# Altium schematic symbol library MasterLib.SchLib: 91 symbols
Pins are listed as number, name and electrical type; pins without a type are passive.

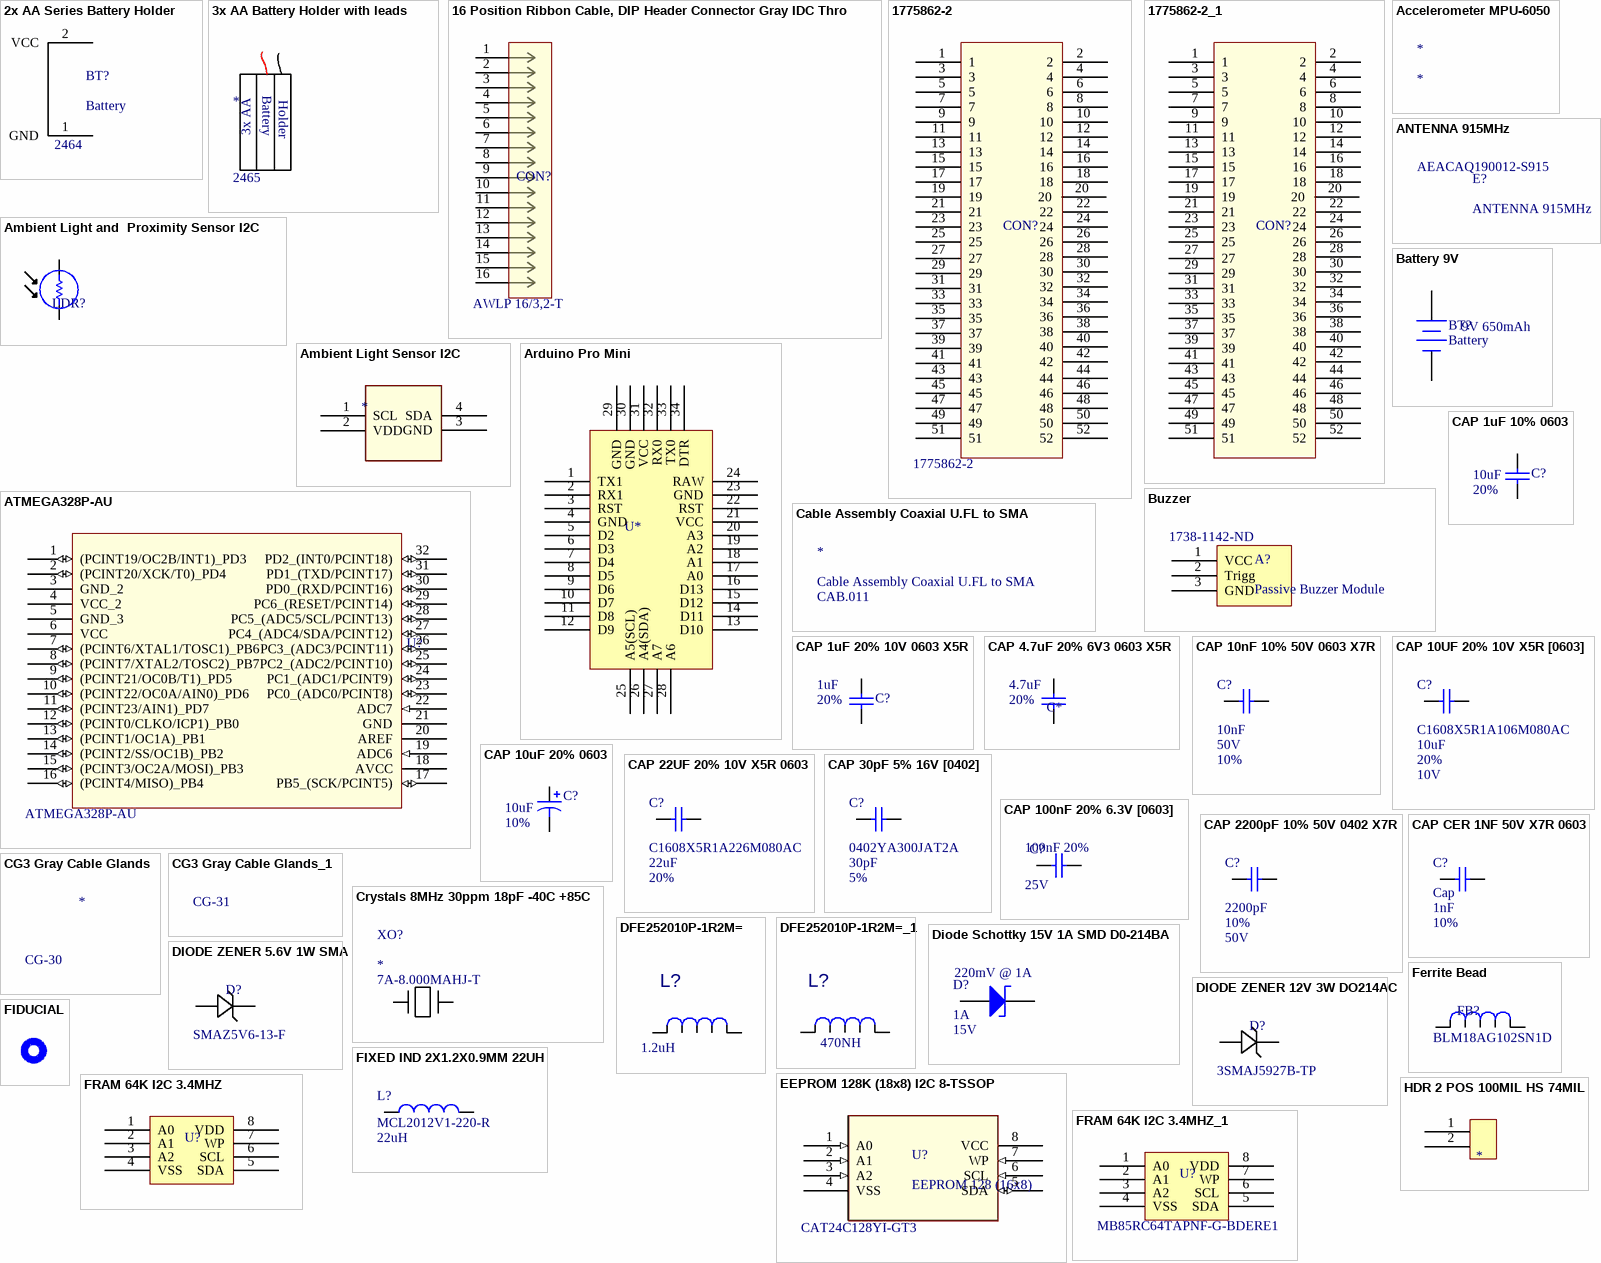
[diagram p0: symbols 2x AA Series Battery Holder to HDR 2 POS 100MIL HS 74MIL]

## 2x AA Series Battery Holder
designator BT?, comment Battery  PN: 2464
BATTERY HOLDER AA 3 CELL PC PIN; Datasheet: https://www.keyelco.com/userAssets/file/M65p28.pdf; Datasheet2: http://www.keyelco.com/product-pdf.cfm?p=1029; Supplier 1: Mouser; Supplier Part Number 1: 534-2464
footprint BATTERY HOLDER AA 3 CELL PC PIN
pins: 1 GND, 2 VCC

## 3x AA Battery Holder with leads
designator *, comment PN: 2465  (hidden comment: BATT HOLDER AA 3 CELL 6" LEADS)
Supplier 1: Digi-Key; Supplier Part Number 1: 36-2465-ND; Datasheet: https://www.mouser.com/datasheet/2/215/465-741230.pdf; Datasheet2: http://www.keyelco.com/product-pdf.cfm?p=1030
footprint BATTERY HOLDER AA 3 CELL 6" LEADS
text: Battery; Holder; 3x AA

## 16 Position Ribbon Cable, DIP Header Connector Gray IDC Through Hole
designator CON?, comment PN: AWLP 16/3,2-T  (hidden comment: CONN DIP HDR IDC 16POS VERT)
16 Position Ribbon Cable, DIP Header Connector Gray IDC Through Hole; Supplier 1: Digi-Key; Supplier Part Number 1: HHDM16S-ND; Datasheet: http://www.assmann-wsw.com/fileadmin/datasheets/ASS_1197_CO.pdf
footprint 16 Position Ribbon Cable, DIP Header Connector Gray IDC Through Hole
pins: 1, 2, 3, 4, 5, 6, 7, 8, 9, 10, 11, 12, 13, 14, 15, 16

## 1775862-2
designator CON?, comment PN: 1775862-2  (hidden comment: CONN PCI EXP MINI FEMALE 52POS)
Datasheet: https://www.te.com/commerce/DocumentDelivery/DDEController?Action=srchrtrv&DocNm=1775862&DocType=Customer+Drawing&DocLang=English; Supplier 1: Digi-Key; Supplier Part Number 1: A142273CT-ND; Datasheet2: http://www.farnell.com/datasheets/2645681.pdf?src-supplier=Farnell
footprint CONN PCI EXP MINI FEMALE 52POS (1775862-2)
pins: 1, 2, 3, 4, 5, 6, 7, 8, 9, 10, 11, 12, 13, 14, 15, 16, 17, 18, 19, 20, 21, 22, 23, 24, 25, 26, 27, 28, 29, 30, 31, 32, 33, 34, 35, 36, 37, 38, 39, 40, 41, 42, 43, 44, 45, 46, 47, 48, 49, 50, 51, 52

## 1775862-2_1
designator CON?, comment CONN PCI EXP MINI BRD EDGE 52POS  (value not drawn)  (no BOM)
Datasheet: https://www.te.com/commerce/DocumentDelivery/DDEController?Action=srchrtrv&DocNm=1775862&DocType=Customer+Drawing&DocLang=English; Datasheet2: http://www.farnell.com/datasheets/2645681.pdf?src-supplier=Farnell
footprint CONN PCI EXP MINI BRD EDGE 52POS
footprint CONN PCI EXP FULL MINI BRD EDGE 52POS
pins: 1, 2, 3, 4, 5, 6, 7, 8, 9, 10, 11, 12, 13, 14, 15, 16, 17, 18, 19, 20, 21, 22, 23, 24, 25, 26, 27, 28, 29, 30, 31, 32, 33, 34, 35, 36, 37, 38, 39, 40, 41, 42, 43, 44, 45, 46, 47, 48, 49, 50, 51, 52

## Accelerometer MPU-6050
designator *

## Ambient Light and  Proximity Sensor I2C
designator LDR?, comment Res1  (value not drawn)
Ambient light and proximity sensor; Supplier 1: Digi-Key; Supplier Part Number 1: 516-1717-1-ND; Datasheet: http://www.farnell.com/datasheets/1816954.pdf?src-supplier=Element14
footprint Ambient Light Sensor SMD (APDS-9005)
pins: 1, 2

## Ambient Light Sensor I2C
designator *  (value not drawn)
Ambient Light Sensor with I2C; PN: VEML7700-TR; Supplier 1: Digi-Key; Supplier Part Number 1: VEML7700CT-ND; Datasheet: https://media.digikey.com/pdf/Data%20Sheets/Vishay%20Semiconductors/VEML7700.pdf
footprint Ambient Light Sensor with I2C
footprint Ambient Light Sensor with I2C
pins: 1 SCL, 2 VDD (power), 3 GND (power), 4 SDA

## ANTENNA 915MHz
designator E?  PN: AEACAQ190012-S915

## Arduino Pro Mini
designator U*  (value not drawn)
PN: DEV-11114; Supplier 1: Digi-Key; Supplier Part Number 1: 1568-1054-ND; Pin Map: https://www.theengineeringprojects.com/wp-content/uploads/2018/06/introduction-to-arduino-pro-mini-2.png
footprint ARDUINO PRO MINI PADS (Footpring for Arduino Pro Mini PADS)
footprint ARDUINO PRO MINI TRH (Footpring for Arduino Pro Mini)
pins: 1 TX1, 2 RX1, 3 RST, 4 GND, 5 D2, 6 D3, 7 D4, 8 D5, 9 D6, 10 D7, 11 D8, 12 D9, 13 D10, 14 D11, 15 D12, 16 D13, 17 A0, 18 A1, 19 A2, 20 A3, 21 VCC, 22 RST, 23 GND, 24 RAW, 25 A5(SCL), 26 A4(SDA), 27 A7, 28 A6, 29 GND, 30 GND, 31 VCC, 32 RX0, 33 TX0, 34 DTR

## ATMEGA328P-AU
designator U?  PN: ATMEGA328P-AU  (hidden comment: *)
8-bit Microcontrollers - MCU 32KB In-system Flash 20MHz 1.8V-5.5V; Datasheet: https://www.mouser.ca/datasheet/2/268/Atmel-8271-8-bit-AVR-Microcontroller-ATmega48A-48P-1315288.pdf; Supplier 1: Digi-Key; Supplier Part Number 1: ATMEGA328P-AU-ND
footprint ATMEGA328P-AU (IC MCU 8BIT 32KB FLASH 32TQFP)
pins: 1 (PCINT19/OC2B/INT1)_PD3 (io), 2 (PCINT20/XCK/T0)_PD4 (io), 3 GND_2 (power), 4 VCC_2 (power), 5 GND_3 (power), 6 VCC (power), 7 (PCINT6/XTAL1/TOSC1)_PB6 (io), 8 (PCINT7/XTAL2/TOSC2)_PB7 (io), 9 (PCINT21/OC0B/T1)_PD5 (io), 10 (PCINT22/OC0A/AIN0)_PD6 (io), 11 (PCINT23/AIN1)_PD7 (io), 12 (PCINT0/CLKO/ICP1)_PB0 (io), 13 (PCINT1/OC1A)_PB1 (io), 14 (PCINT2/SS/OC1B)_PB2 (io), 15 (PCINT3/OC2A/MOSI)_PB3 (io), 16 (PCINT4/MISO)_PB4 (io), 17 PB5_(SCK/PCINT5) (io), 18 AVCC (power), 19 ADC6 (in), 20 AREF, 21 GND (power), 22 ADC7 (in), 23 PC0_(ADC0/PCINT8) (io), 24 PC1_(ADC1/PCINT9) (io), 25 PC2_(ADC2/PCINT10) (io), 26 PC3_(ADC3/PCINT11) (io), 27 PC4_(ADC4/SDA/PCINT12) (io), 28 PC5_(ADC5/SCL/PCINT13) (io), 29 PC6_(RESET/PCINT14) (io), 30 PD0_(RXD/PCINT16) (io), 31 PD1_(TXD/PCINT17) (io), 32 PD2_(INT0/PCINT18) (io)

## Battery 9V
designator BT?, comment Battery
9V 650mAh. USB rechargable
pins: 1 +, 2 -
text: 9V 650mAh

## Buzzer
designator A?, comment Passive Buzzer Module  Supplier Part Number 1: 1738-1142-ND
PN: DFR0032; Supplier 1: Digi-Key
pins: 1 VCC (power), 2 Trigg, 3 GND "Passive Buzzer Module"

## Cable Assembly Coaxial U.FL to SMA
designator *  PN: CAB.011
Datasheet: https://cdn.taoglas.com/datasheets/CAB.011.pdf; Supplier 1: Digi-Key; Supplier Part Number 1: 931-1098-ND

## CAP 1uF 10% 0603
designator C?, comment value 10uF  Tolerance: 20%  (hidden comment: CAP 10uF 20% 10V 0603 X5R)
PN: C1608X5R1A106M080AC; Supplier 1: Newark; Supplier Part Number 1: 87R3602
footprint 0603
pins: 1, 2

## CAP 1uF 20% 10V 0603 X5R
designator C?, comment value 1uF  Tolerance: 20%  (hidden comment: CAP 1uF 20% 16V 0603 X7R)
PN: C1608X7R1C105M080AC; Supplier 1: Digi-Key; Supplier Part Number 1: 445-5131-1-ND
footprint CAP 0603
pins: 1, 2

## CAP 4.7uF 20% 6V3 0603 X5R
designator C*  value 4.7uF  Tolerance: 20%  (hidden comment: CAP 4.7uF 20% 6V3 0603 X5R)
PN: C0603C475M9PACTU; Supplier 1: Digi-Key; Supplier Part Number 1: 399-7936-1-ND
footprint CAP 0603
pins: 1, 2

## CAP 10nF 10% 50V 0603 X7R
designator C?, comment value 10nF  Volts: 50V  Tolerance: 10%  (hidden comment: Cap)
CAP 10nF 10% 50V 0603 X7R; PN: AC0603KRX7R9BB103; Supplier 1: Digi-Key; Supplier Part Number 1: 311-3117-1-ND; Datasheet: https://www.mouser.ca/datasheet/2/447/PYu-AC_51_RoHS_L_7-1714230.pdf
footprint CAP 0603
pins: 1, 2

## CAP 10UF 20% 10V X5R [0603]
designator C?, comment value 10uF  PN: C1608X5R1A106M080AC  Tolerance: 20%  Volts: 10V  (hidden comment: CAP 10UF 20% 10V X5R 0603)
Datasheet: https://product.tdk.com/info/en/catalog/datasheets/mlcc_commercial_general_en.pdf?ref_disty=digikey; Supplier 1: Digi-Key; Supplier Part Number 1: 445-6853-1-ND
footprint CAP 0603
pins: 1, 2

## CAP 10uF 20% 0603
designator C?, comment value 10uF  Tolerance: 10%  (hidden comment: CAP 10uF 10% 10V TAN)
PN: TAJA106K010RNJ; Supplier 1: Digi-Key; Supplier Part Number 1: 478-1654-1-ND
footprint CAP POL 1206
pins: 1, 2

## CAP 22UF 20% 10V X5R 0603
designator C?, comment value 22uF  PN: C1608X5R1A226M080AC  Tolerance: 20%  (hidden comment: Cap)
CAP 22UF 20% 10V X5R 0603; Datasheet: https://product.tdk.com/info/en/catalog/datasheets/mlcc_commercial_general_en.pdf?ref_disty=digikey; Supplier 1: Digi-Key; Supplier Part Number 1: 445-9077-1-ND
footprint CAP 0603
pins: 1, 2

## CAP 30pF 5% 16V [0402]
designator C?  value 30pF  PN: 0402YA300JAT2A  Tolerance: 5%  (hidden comment: CAP 30pF 5% 16V [0402])
Datasheet: https://www.mouser.ca/datasheet/2/40/C0GNP0-Dielectric-951274.pdf; Supplier 1: Mouser; Supplier Part Number 1: 581-0402YA300JAT2A
footprint CAP [0402]
pins: 1, 2

## CAP 100nF 20% 6.3V [0603]
designator C?, comment value 100nF  Tolerance: 20%  Voltage: 25V  (hidden comment: CAP 100nF 20% 10V [0603] X7R)
PN: 06033C104MAT2A; Supplier 1: Digi-Key; Supplier Part Number 1: 478-5049-1-ND; Temperature Coeff.: X7R
footprint CAP 0603
pins: 1, 2

## CAP 2200pF 10% 50V 0402 X7R
designator C?, comment value 2200pF  Tolerance: 10%  Volts: 50V  (hidden comment: Cap)
CAP 2200pF 10% 50V 0402 X7R; PN: C0402C222K5RACTU; Supplier 1: Digi-Key; Supplier Part Number 1: 399-3068-6-ND; Datasheet: https://www.mouser.ca/datasheet/2/212/KEM_C1002_X7R_SMD-1102033.pdf
footprint CAP 0603
pins: 1, 2

## CAP CER 1NF 50V X7R 0603
designator C?, comment Cap  value 1nF  Tolerance: 10%
CAP CER 1NF 50V X7R 0603; PN: CL10B102KB8WPJC; Supplier 1: Digi-Key; Supplier Part Number 1: 1276-CL10B102KB8WPJCCT-ND
footprint CAP 0603
pins: 1, 2

## CG3 Gray Cable Glands
designator *  PN: CG-30  (hidden comment: CG3 Gray Cable Glands)
1.16 x 0.84 x 0.84 in / 29.46 x 21.34 x 21.34 mm. / 0.02 lbs; Supplier: Polycase; Price: $1.95; URL: https://www.polycase.com/cg3; Datasheet: https://www.polycase.com/pub/media/catalog/product/file/CG3%20PDF.zip
footprint CG3 Gray Cable Glands (1.16 x 0.84 x 0.84 in / 29.46 x 21.34 x 21.34 mm. / 0.02 lbs)

## CG3 Gray Cable Glands_1
designator *, comment PN: CG-31  (hidden comment: CG31 Gray Cable Glands)
1.25 x 0.97 x 0.97 in / 31.75 x 24.64 x 24.64 mm. / 0.02 lbs; Supplier: Polycase; Price: $2.05; URL: https://www.polycase.com/cg3; Datasheet: https://www.polycase.com/pub/media/catalog/product/file/CG3%20PDF.zip
footprint CG31 Gray Cable Glands (1.25 x 0.97 x 0.97 in / 31.75 x 24.64 x 24.64 mm. / 0.02 lbs)

## Crystals 8MHz 30ppm 18pF -40C +85C
designator XO?  PN: 7A-8.000MAHJ-T
Crystals 8MHz 30ppm 18pF; Supplier 1: Digi-Key; Supplier Part Number 1: 887-2634-1-ND; Datasheet: https://www.mouser.ca/datasheet/2/417/7a-13881.pdf
footprint 7A-8.000MAHJ-T (Crystals 8MHz 30ppm 18pF -40C +85C)
pins: 1, 2

## DFE252010P-1R2M=
designator L?, comment value 1.2uH  (hidden comment: FIXED IND 1.2UH 3.2A 68 MOHM SMD)
Manufacturer_Part_Number: DFE252010P-1R2M=P2; C: Copyright (C) 2018 Accelerated Designs. All rights reserved; Vendor: Murata; Built_By: EMA_Cory; SourceLibrary: Murata_2020-01-23; Copyright: Copyright (C) 2018 Accelerated Designs. All rights reserved; PN: DFE252010P-1R2M=P2
footprint IND_DFE252010F-1
footprint IND 470NH 5A 35 MOHM SMD (470nH Shielded Wirewound Inductor 5A 35mOhm Max 1008 (2520 Metric))
pins: 1, 2
1 alternate drawing of the same symbol

## DFE252010P-1R2M=_1
designator L?, comment value 470NH  (hidden comment: FIXED IND 470NH 5A 35 MOHM SMD)
Manufacturer_Part_Number: DFE252010P-R47M=P2; C: Copyright (C) 2018 Accelerated Designs. All rights reserved; Vendor: Murata; Built_By: EMA_Cory; SourceLibrary: Murata_2020-01-23; Copyright: Copyright (C) 2018 Accelerated Designs. All rights reserved
footprint IND_DFE252010F-1
footprint IND 470NH 5A 35 MOHM SMD (470nH Shielded Wirewound Inductor 5A 35mOhm Max 1008 (2520 Metric))
pins: 1, 2
1 alternate drawing of the same symbol

## Diode Schottky 15V 1A SMD D0-214BA
designator D?, comment Vf: 220mV @ 1A  Io: 1A  Vr: 15V  (hidden comment: Diode Schottky 15V 1A, Vf220mV @ 1A)
PN: LSM115JE3/TR13; Supplier 1: Digi-Key; Supplier Part Number 1: LSM115JE3/TR13CT-ND; Datasheet: https://media.digikey.com/pdf/Data%20Sheets/Microsemi%20PDFs/LSM115J.pdf?src-supplier=Digi-Key
footprint Diode Schottky LSM115J
pins: 1 A, 2 K

## DIODE ZENER 5.6V 1W SMA
designator D?  PN: SMAZ5V6-13-F  (hidden comment: DIODE ZENER 5.6V 1W SMA)
Supplier 1: Digi-Key; Supplier Part Number 1: SMAZ5V6-FDIDKR-ND; Datasheet: https://www.diodes.com/assets/Datasheets/ds18015.pdf
footprint DIODE ZENER 5.6V 1W SMA
pins: 1, 2

## DIODE ZENER 12V 3W DO214AC
designator D?  PN: 3SMAJ5927B-TP
DIODE ZENER 12V 3W DO214AC; Supplier 1: Digi-Key; Datasheet: https://www.mccsemi.com/pdf/Products/3SMAJ5913B~3SMAJ5943B(DO-214AC).pdf
footprint DO-214AC  (SMA) (DIODE ZENER SMA)
pins: 1, 2

## EEPROM 128K (18x8) I2C 8-TSSOP
designator U?, comment EEPROM 128 (16x8)  PN: CAT24C128YI-GT3
EEPROM 128 (16x8) I2C 8-TSSOP; Supplier 1: Digi-Key; Supplier Part Number 1: CAT24C128YI-GT3OSCT-ND; Datasheet: https://datasheet.octopart.com/CAT24C128YI-GT3-ON-Semiconductor-datasheet-11001034.pdf
footprint 8-TSSOP
pins: 1 A0 (in), 2 A1 (in), 3 A2 (in), 4 VSS (power), 5 SDA (io), 6 SCL (in), 7 WP (in), 8 VCC (power)

## Ferrite Bead
designator FB?  PN: BLM18AG102SN1D  (hidden comment: *)
Ferrite Bead 1KOhm @100MHz; Datasheet: https://www.murata.com/en-us/products/productdata/8796738650142/ENFA0003.pdf?src-supplier=Digi-Key; Supplier 1: Mouser; Supplier Part Number 1: 81-BLM11A102S
footprint Ferrite Bead
pins: 1, 2

## FIDUCIAL
designator fid?  (value not drawn)  (no BOM)
FIDUCIAL
footprint FIDUCIAL

## FIXED IND 2X1.2X0.9MM 22UH
designator L?, comment value 22uH  PN: MCL2012V1-220-R  (hidden comment: Inductor)
FIXED IND 2X1.2X0.9MM 22UH; Supplier 1: Digi-Key; Supplier Part Number 1: 283-MCL2012V1-220-RCT-ND; Datasheet: https://www.eaton.com/content/dam/eaton/products/electronic-components/resources/data-sheet/eaton-mcl2012v1-multilayer-chip-inductor-data-sheet.pdf
footprint INDUCTOR [0805]
pins: 1, 2

## FRAM 64K I2C 3.4MHZ
designator U?  (value not drawn)
IC FRAM 64K I2C 3.4MHZ 8SON; PN: MB85RC64TAPN-G-AMEWE1; Datasheet: https://www.fujitsu.com/global/documents/products/devices/semiconductor/fram/lineup/MB85RC64TA-DS501-00044-3v0-E.pdf; Supplier 1: Digi-Key; Supplier Part Number 1: 865-1275-1-ND
pins: 1 A0, 2 A1, 3 A2, 4 VSS, 5 SDA, 6 SCL, 7 WP, 8 VDD

## FRAM 64K I2C 3.4MHZ_1
designator U?  PN: MB85RC64TAPNF-G-BDERE1  (hidden comment: FRAM 64K I2C 3.4MHZ_1)
IC FRAM 64K I2C 3.4MHZ 8SOP; http://www.fujitsu.com/global/documents/products/devices/semiconductor/fram/lineup/MB85RC64TA-DS501-00044-3v0-E.pdf: Datasheet; Supplier 1: Digi-Key; Supplier Part Number 1: 865-1274-1-ND
footprint 8-pin plastic SOP  (FPT-8P-M09)
pins: 1 A0, 2 A1, 3 A2, 4 VSS, 5 SDA, 6 SCL, 7 WP, 8 VDD

## HDR 2 POS 100MIL HS 74MIL
designator *  (value not drawn)
HDR 1x2 100MIL HS 74MIL NO PINS
footprint 1X02
pins: 1, 2

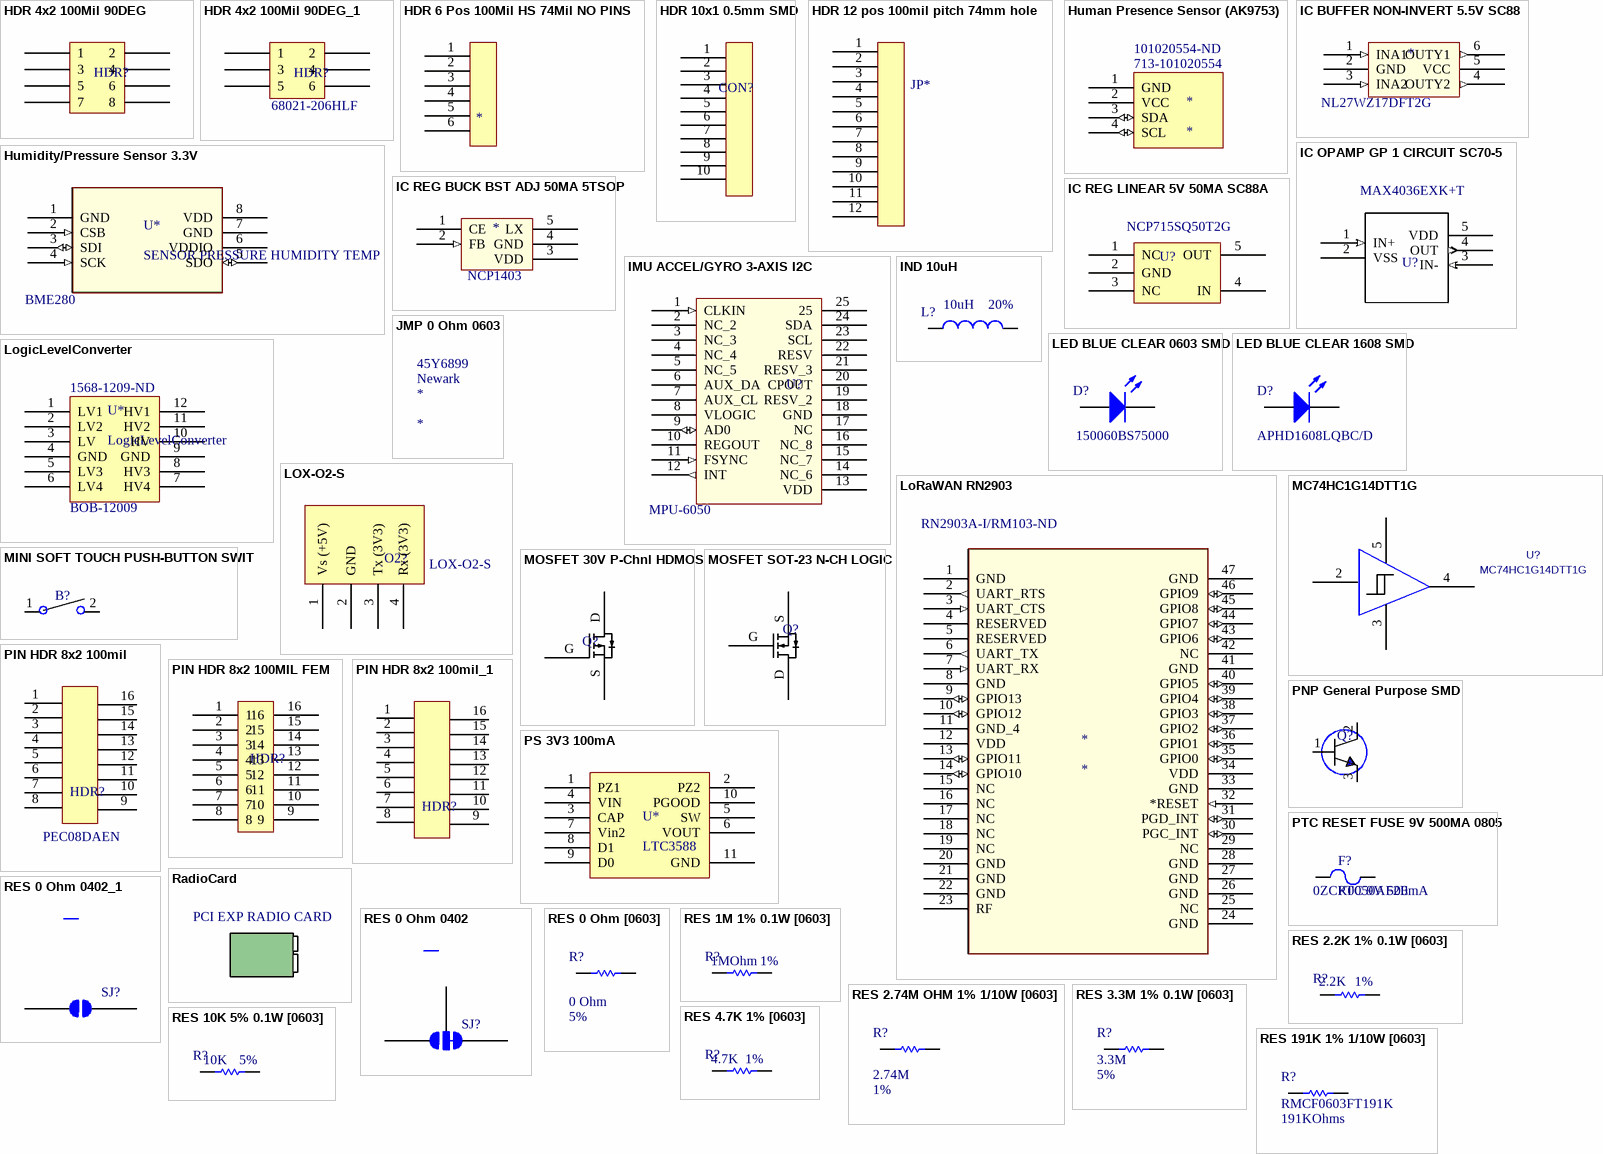
[diagram p1: symbols HDR 4x2 100Mil 90DEG to RES 191K 1% 1/10W [0603]]

## HDR 4x2 100Mil 90DEG
designator HDR?  (value not drawn)
CONN HEADER R/A 8POS 2.54MM 90DEG; PN: 68021-208HLF; Supplier 1: Digi-Key; Supplier Part Number 1: 609-3344-ND; Datasheet: https://cdn.amphenol-icc.com/media/wysiwyg/files/drawing/68020.pdf
footprint 2X4 100 mil - 90DEG (2X4 100 mil)
pins: 1, 2, 3, 4, 5, 6, 7, 8

## HDR 4x2 100Mil 90DEG_1
designator HDR?  PN: 68021-206HLF  (hidden comment: *)
CONN HEADER R/A 6POS 2.54MM 90DEG; Datasheet: https://cdn.amphenol-icc.com/media/wysiwyg/files/drawing/68020.pdf; Supplier Part Number 1: 68021-206HLF; Supplier 1: PEI Genesis
footprint 2X3 100 mil - 90DEG (2X3 100 mil)
pins: 1, 2, 3, 4, 5, 6

## HDR 6 Pos 100Mil HS 74Mil NO PINS
designator *  (value not drawn)
HDR 1x12 100Mil HS 74MIL NO PINS
footprint 1X06
pins: 1, 2, 3, 4, 5, 6

## HDR 10x1 0.5mm SMD
designator CON?  (value not drawn)
HDR 10x2 0.5mm SMD; Manufacturer: Molex; PN: 1041411010; Supplier 1: Digi-Key; Supplier Part Number 1: WM21042CT-ND; Datasheet: https://www.molex.com/pdm_docs/sd/1041411010_sd.pdf; Datasheet2: https://www.molex.com/webdocs/datasheets/pdf/en-us/1041411010_PCB_HEADERS.pdf
footprint HDR 10x1 0.5mm SMD
pins: 1, 2, 3, 4, 5, 6, 7, 8, 9, 10

## HDR 12 pos 100mil pitch 74mm hole
designator JP*  (value not drawn)
HDR 12 Pos 100Mil NO PINS
footprint 1X12
pins: 1, 2, 3, 4, 5, 6, 7, 8, 9, 10, 11, 12

## Human Presence Sensor (AK9753)
designator *  Supplier Part Number 1: 713-101020554  Supplier Part Number 2: 101020554-ND
Human Presence Sensor; Manufacturer: Seeed Technology Co., Ltd; PN: 101020554; Supplier 1: Mouser; Supplier 2: Digi-Key
pins: 1 GND (power), 2 VCC (power), 3 SDA (io), 4 SCL (io)

## Humidity/Pressure Sensor 3.3V
designator U*, comment SENSOR PRESSURE HUMIDITY TEMP  PN: BME280
Humidity Temperature Sensor 0 ~ 100% RH I²C, SPI ±3% SMD; Manufacturer: Bosch Sensortec; Datasheet: https://ae-bst.resource.bosch.com/media/_tech/media/datasheets/BST-BME280-DS002.pdf; Supplier 1: Digi-Key; Supplier Part Number 1: 828-1063-1-ND
footprint Sensor housing 8-pin LGA
pins: 1 GND (power), 2 CSB (in), 3 SDI (io), 4 SCK (in), 5 SDO (io), 6 VDDIO (power), 7 GND (power), 8 VDD (power)

## IC BUFFER NON-INVERT 5.5V SC88
designator *, comment PN: NL27WZ17DFT2G  (hidden comment: Schmitt Trigger Buffer,  Dual, Non-Inverting)
IC BUFFER NON-INVERT 5.5V SC88; Supplier 1: Digi-Key; Supplier Part Number 1: NL27WZ16DFT2GOSCT-ND; Datasheet: https://www.onsemi.com/pub/Collateral/NL27WZ17-D.PDF
footprint 6-TSSOP, SC-88, SOT-363
footprint SC-88
pins: 1 INA1 (in), 2 GND (power), 3 INA2 (in), 4 OUTY2 (out), 5 VCC (power), 6 OUTY1 (out)

## IC OPAMP GP 1 CIRCUIT SC70-5
designator U?  PN: MAX4036EXK+T  (hidden comment: *)
General Purpose Amplifier Circuit Rail-to-Rail SC-70-5; Datasheet: https://datasheets.maximintegrated.com/en/ds/MAX4036-MAX4039.pdf; Supplier1: Digi-Key
footprint SC-70-5
pins: 1 IN+ (in), 2 VSS (power), 3 IN- (in), 4 OUT (out), 5 VDD (power)

## IC REG BUCK BST ADJ 50MA 5TSOP
designator *  PN: NCP1403  (hidden comment: IC REG BUCK BST ADJ 50MA 5TSOP)
Datasheet: https://www.onsemi.com/pub/Collateral/NCP1403-D.PDF; Supplier 1: Mouser; Supplier Part Number 1: 863-NCP1403SNT1G
footprint 5-TSOP
pins: 1 CE, 2 FB (in), 3 VDD (power), 4 GND (power), 5 LX

## IC REG LINEAR 5V 50MA SC88A
designator U?  PN: NCP715SQ50T2G  (hidden comment: *)
Linear Voltage Regulator IC Output 50mA SC-88A (SC-70-5/SOT-353); Datasheet: https://www.onsemi.com/pub/Collateral/NCP715-D.PDF
footprint SC-70-5
pins: 1 NC, 2 GND, 3 NC, 4 IN, 5 OUT

## IMU ACCEL/GYRO 3-AXIS I2C
designator U?  PN: MPU-6050  (hidden comment: *)
IMU ACCEL/GYRO 3-AXIS I2C; Supplier 1: Digi-Key; Supplier Part Number 1: 1428-1007-1-ND; Datasheet: https://store.invensense.com/Datasheets/invensense/RM-MPU-6000A.pdf?ref_disty=digikey; Datasheet2: https://store.invensense.com/datasheets/invensense/MPU-6050_DataSheet_V3%204.pdf?ref_disty=digikey
footprint 24-VFQFN Module Exposed Pad
pins: 1 CLKIN (in), 2 NC_2, 3 NC_3, 4 NC_4, 5 NC_5, 6 AUX_DA, 7 AUX_CL, 8 VLOGIC (power), 9 AD0 (io), 10 REGOUT, 11 FSYNC (in), 12 INT (out), 13 VDD (power), 14 NC_6, 15 NC_7, 16 NC_8, 17 NC, 18 GND (power), 19 RESV_2, 20 CPOUT, 21 RESV_3, 22 RESV, 23 SCL, 24 SDA, 25

## IND 10uH
designator L?, comment value 10uH  Tolerance: 20%  (hidden comment: Inductor)
IND 10uH 20% 1A SMD; Manufacturer: CoilCraft; PN: EPL3015-103MLC; Supplier 1: Coilcraft Direct; Supplier Part Number 1: EPL3015-103MLC
footprint IND SMD 3mmx3mm
pins: 1, 2

## JMP 0 Ohm 0603
designator *  Supplier 1: Newark  Supplier Part Number 1: 45Y6899
JMP 0 Ohm [0603]; PN: RC0402JR-070RL

## LED BLUE CLEAR 0603 SMD
designator D?, comment PN: 150060BS75000  (hidden comment: LED)
LED BLUE CLEAR 0603 SMD; Supplier 1: Digi-Key; Supplier Part Number 1: 732-4966-1-ND; Datasheet: https://katalog.we-online.de/led/datasheet/150060BS75000.pdf
footprint LED BLUE CLEAR [0603] (LED BLUE CLEAR 0603 SMD)
pins: 1, 2

## LED BLUE CLEAR 1608 SMD
designator D?, comment PN: APHD1608LQBC/D  (hidden comment: LED)
LED BLUE CLEAR [0603] 2mA; Datasheet: http://www.kingbrightusa.com/images/catalog/SPEC/APHD1608LQBC-D.pdf; Supplier 1: Digi-Key; Supplier Part Number 1: 754-2034-1-ND
footprint LED BLUE CLEAR [0603] 2mA
pins: 1, 2

## LogicLevelConverter
designator U*  Supplier Part Number 1: 1568-1209-ND
Bi-directional logic level converter; Supplier 1: Digi-Key
pins: 1 LV1, 2 LV2, 3 LV, 4 GND, 5 LV3, 6 LV4, 7 HV4, 8 HV3, 9 GND, 10 HV, 11 HV2, 12 HV1
text: BOB-12009

## LoRaWAN RN2903
designator *  Supplier Part Number 1: RN2903A-I/RM103-ND
LoRaWAN RN2903; Manufacturer: Microchip Technology; PN: RN2903A-I/RM103; Supplier 1: Digi-Key
footprint LoRaWAN RN2903
pins: 1 GND (power), 2 UART_RTS (out), 3 UART_CTS (in), 4 RESERVED, 5 RESERVED, 6 UART_TX (out), 7 UART_RX (in), 8 GND (power), 9 GPIO13 (io), 10 GPIO12 (io), 11 GND_4 (power), 12 VDD (power), 13 GPIO11 (io), 14 GPIO10 (io), 15 NC, 16 NC, 17 NC, 18 NC, 19 NC, 20 GND (power), 21 GND (power), 22 GND (power), 23 RF, 24 GND (power), 25 NC, 26 GND (power), 27 GND (power), 28 GND (power), 29 NC, 30 PGC_INT (io), 31 PGD_INT (io), 32 *RESET (in), 33 GND (power), 34 VDD (power), 35 GPIO0 (io), 36 GPIO1 (io), 37 GPIO2 (io), 38 GPIO3 (io), 39 GPIO4 (io), 40 GPIO5 (io), 41 GND (power), 42 NC, 43 GPIO6 (io), 44 GPIO7 (io), 45 GPIO8 (io), 46 GPIO9 (io), 47 GND (power)

## LOX-O2-S
designator O2?
Datasheet: https://www.sstsensing.com/wp-content/uploads/2019/07/DS0030rev14_LuminOx.pdf; URL: https://www.sstsensing.com/product/luminox-optical-oxygen-sensors-2/; Supplier: www.sstsensing.com; PN: LOX-O2-S
footprint LuminOx O2 Sensors
pins: 1 Vs (+5V), 2 GND, 3 Tx (3V3), 4 Rx (3V3)

## MC74HC1G14DTT1G
designator U?
IC INVERTER SCHMITT 1CH 5TSOP; C: Copyright (C) 2016 Accelerated Designs. All rights reserved; Vendor: ON Semiconductor; SourceLibrary: ON_Semiconductor_2018-12-15; PN: MC74HC1G14DTT1G; Manufacturer_Part_Number: MC74HC1G14DTT1G; Copyright: Copyright (C) 2016 Accelerated Designs. All rights reserved
footprint SOT23-5_ONS
footprint 5-TSOP
pins: 2 A, 3 GND, 4 Y, 5 VCC

## MINI SOFT TOUCH PUSH-BUTTON SWIT
designator B?  (value not drawn)
MINI SOFT TOUCH PUSH-BUTTON SWIT; Manufacturer: Adafruit Industries LLC; PN: 3983; Datasheet: https://cdn-shop.adafruit.com/product-files/3983/SKPM_D_11.GIF; Datasheet1: https://media.digikey.com/pdf/Data%20Sheets/Adafruit%20PDFs/3983_Web.pdf; Supplier 1: Mouser; Supplier Part Number 1: 485-3983
footprint Push Button
pins: 1, 2

## MOSFET 30V P-Chnl HDMOS
designator Q?  (value not drawn)
MOSFET 30V P-Chnl HDMOS; PN: ZXM61P03FTA; Supplier 1: Digi-Key; Supplier Part Number 1: ZXM61P03FCT-ND; Datasheet: https://www.mouser.ca/datasheet/2/115/ZXM61P03F-93088.pdf
footprint FET P-ch
pins: D, G, S

## MOSFET SOT-23 N-CH LOGIC
designator Q?  (value not drawn)
MOSFET SOT-23 N-CH LOGIC; PN: BSS138-7-F; Datasheet: https://www.mouser.ca/datasheet/2/308/BSS138-D-1658842.pdf; Supplier 1: Digi-Key; Supplier Part Number 1: BSS138-FDICT-ND
footprint FET N-CH
pins: D, G, S

## PIN HDR 8x2 100mil
designator HDR?, comment PN: PEC08DAEN  (hidden comment: 2x8 HDR 100Mil 0.520Mil)
Supplier 1: Digi-Key; Supplier Part Number 1: S2052E-08-ND; DAtasheet: https://www.sullinscorp.com/catalogs/77_PAGE108-109_.100_MALE_HDR.pdf?src-supplier=Digi-Key
footprint 2X8 100 mil
pins: 1, 2, 3, 4, 5, 6, 7, 8, 9, 10, 11, 12, 13, 14, 15, 16

## PIN HDR 8x2 100MIL FEM
designator HDR?  (value not drawn)
2X8 PIN HDR 100MIL REC; pn: CES-108-01-T-D; Supplier 1: Mouser; Supplier Part Number 1: 200-CES10801TD; Datasheet: https://www.mouser.ca/datasheet/2/527/ces-1369975.pdf
footprint 2X8 100 mil - FEMALE (2X8 100 mil)
pins: 1, 2, 3, 4, 5, 6, 7, 8, 9, 10, 11, 12, 13, 14, 15, 16

## PIN HDR 8x2 100mil_1
designator HDR?, comment 2x8 HDR 100Mil 0.520Mil 90DEG  (value not drawn)
pins: 1, 2, 3, 4, 5, 6, 7, 8, 9, 10, 11, 12, 13, 14, 15, 16

## PNP General Purpose SMD
designator Q?  (value not drawn)
PNP General Purpose SMD; PN: DTDG14GPT100; Supplier 1: Digi-Key; Supplier Part Number 1: DTDG14GPT100CT-ND; Datasheet: http://rohmfs.rohm.com/en/products/databook/datasheet/discrete/transistor/digital/dtdg14gpt100-e.pdf; Datasheet2: http://rohmfs.rohm.com/en/techdata_basic/transistor/taping/MPT3_T100_taping.pdf
footprint SOT-89 (MPT3)
pins: 1 BASE, 2 COLLECTOR, 3 EMITTER

## PS 3V3 100mA
designator U*, comment LTC3588
PS 1V3,2V5,3V3,3V6 @ 100mA; PN: LTC3588EMSE-1#PBF; Supplier 1: Digi-Key; Supplier Part Number 1: LTC3588EMSE-1#PBF-ND
footprint MSOP 10 lead (MSOP PACKAGE)
pins: 1 PZ1, 2 PZ2, 3 CAP, 4 VIN, 5 SW, 6 VOUT, 7 Vin2, 8 D1, 9 D0, 10 PGOOD, 11 GND

## PTC RESET FUSE 9V 500MA 0805
designator F?, comment PTC 9V 500mA  PN: 0ZCK0050AF2E
PTC RESET FUSE 9V 500MA 0805; Supplier 1: Digi-Key; Supplier Part Number 1: 507-2075-1-ND; Datasheet: https://www.belfuse.com/resources/datasheets/circuitprotection/ds-cp-0zck-series.pdf
footprint PTC RESET FUSE 9V 500MA 0805
pins: 1, 2

## RadioCard
designator *  (value not drawn)  (no BOM)
footprint Radio CARD
text: PCI EXP RADIO CARD

## RES 0 Ohm 0402
designator SJ?, comment SJ JMP SMD 3Pos  (value not drawn)  (no BOM)
footprint SJ_3S
pins: 1, 2, 3

## RES 0 Ohm 0402_1
designator SJ?, comment SJ JMP SMD 2Pos  (value not drawn)  (no BOM)
footprint SJ_2S
pins: 1, 2

## RES 0 Ohm [0603]
designator R?, comment value 0 Ohm  Tolerance: 5%  (hidden comment: RES 0 Ohm 5% 0.1W [0603])
PN: ERJ-3GEY0R00V; Supplier 1: Mouser; Supplier Part Number 1: 667-ERJ-3GEY0R00V; Datasheet: http://industrial.panasonic.com/cdbs/www-data/pdf/RDA0000/AOA0000C301.pdf?src-supplier=Farnell
footprint RES 0603
pins: 1, 2

## RES 1M 1% 0.1W [0603]
designator R?  value 1MOhm  Tolerance: 1%  (hidden comment: RES 1M 1% 0.1W [0603])
PN: CR0603-FX-1004ELF; Supplier 1: Mouser; Supplier Part Number 1: 652-CR0603FX-1004ELF; Datasheet: https://uk.rs-online.com/webdocs/0fcd/0900766b80fcdb72.pdf?src-supplier=RSComponents; Power: 0.1W
footprint RES 0603
pins: 1, 2

## RES 2.2K 1% 0.1W [0603]
designator R?  value 2.2K  Tolerance: 1%  (hidden comment: RES 2.2K 1% 0.1W [0603])
PN: ERJ-3EKF2201V; Datasheet: http://www.farnell.com/datasheets/1678782.pdf?src-supplier=Element14; Supplier 1: Digi-Key; Supplier Part Number 1: P2.20KHCT-ND
footprint RES 0603
pins: 1, 2

## RES 2.74M OHM 1% 1/10W [0603]
designator R?  value 2.74M  Tolerance: 1%  (hidden comment: RES 2.74M OHM 1% 1/10W [0603])
PN: RMCF0603FT2M74; Datasheet: https://www.seielect.com/catalog/sei-rmcf_rmcp.pdf; Supplier 1: Digi-Key; Supplier Part Number 1: 738-RMCF0603FT2M74CT-ND
footprint RES 0603
pins: 1, 2

## RES 3.3M 1% 0.1W [0603]
designator R?, comment value 3.3M  Tolerance: 5%  (hidden comment: RES 3.3M 5% 0.1W [0603])
PN: CRCW06033M30FKEA; Supplier 1: Digi-Key; Supplier Part Number 1: 541-3.30MHCT-ND
footprint RES 0603
pins: 1, 2

## RES 4.7K 1% [0603]
designator R?, comment Resistance: 4.7K  Tolerance: 1%  (hidden comment: RES 4.7K 1% 0.1W [0603])
PN: ERJ-3EKF4701V; Supplier 1: Digi-Key; Supplier Part Number 1: P4.70KHCT-ND
footprint RES 0603
pins: 1, 2

## RES 10K 5% 0.1W [0603]
designator R?  value 10K  Tolerance: 5%  (hidden comment: RES 10K 5% 0.1W [0603])
PN: CR0603-JW-103ELF; Supplier 1: Newark; Supplier Part Number 1: 84W7243
footprint RES 0603
pins: 1, 2

## RES 191K 1% 1/10W [0603]
designator R?, comment value 191KOhms  PN: RMCF0603FT191K  (hidden comment: Res1)
RES 191K OHM 1% 1/10W 0603; Supplier 1: Digi-Key; Supplier Part Number 1: RMCF0603FT191KCT-ND; Datasheet: https://www.seielect.com/catalog/sei-rmcf_rmcp.pdf
footprint RES 0603
pins: 1, 2

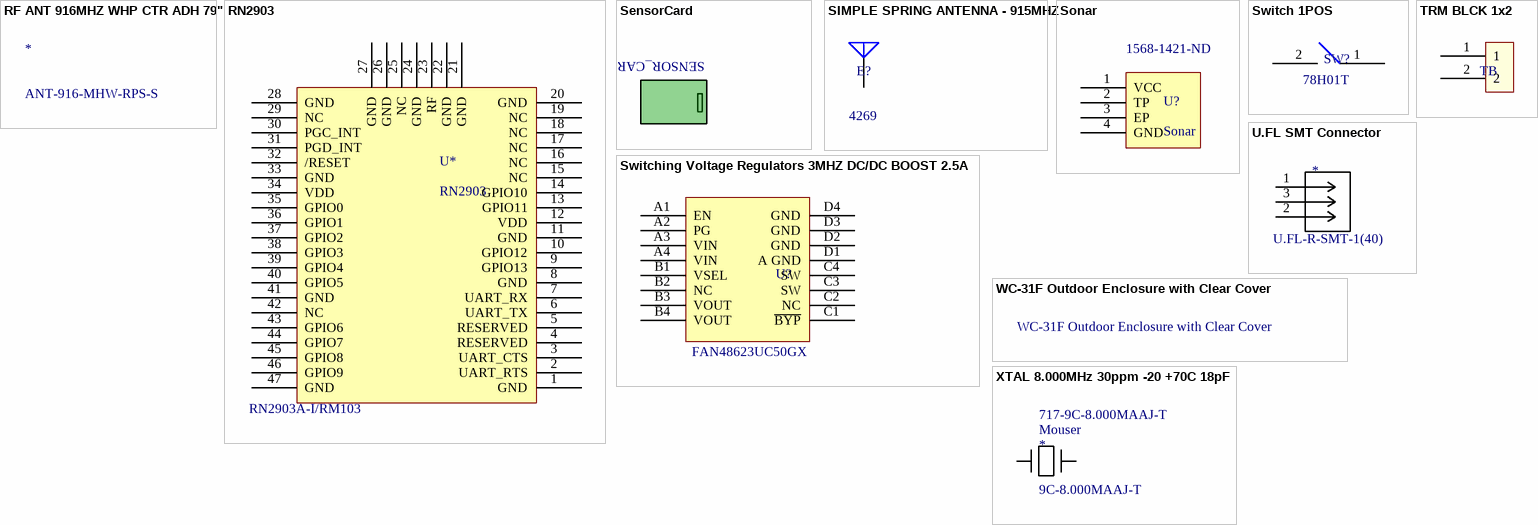
[diagram p2: symbols RF ANT 916MHZ WHP CTR ADH 79" to XTAL 8.000MHz 30ppm -20 +70C 18pF]

## RF ANT 916MHZ WHP CTR ADH 79"
designator *  (value not drawn)
ANT-916-MHW-RPS-S; Datasheet: https://linxtechnologies.com/wp/wp-content/uploads/ant-916-mhw-fff-x.pdf; Supplier 1: Digi-Key; Supplier Part Number 1: ANT-433-MHW-RPS-S-ND; PN: ANT-916-MHW-RPS-S

## RN2903
designator U*  PN: RN2903A-I/RM103
LoRaWAN module; Manufacturer: Microchip Technology; Supplier 1: Digi-Key; Supplier Part Number 1: RN2903A-I/RM103-ND
footprint LoRaWAN RN2903
pins: 1 GND, 2 UART_RTS, 3 UART_CTS, 4 RESERVED, 5 RESERVED, 6 UART_TX, 7 UART_RX, 8 GND, 9 GPIO13, 10 GPIO12, 11 GND, 12 VDD, 13 GPIO11, 14 GPIO10, 15 NC, 16 NC, 17 NC, 18 NC, 19 NC, 20 GND, 21 GND, 22 GND, 23 RF, 24 GND, 25 NC, 26 GND, 27 GND, 28 GND, 29 NC, 30 PGC_INT, 31 PGD_INT, 32 /RESET (oe), 33 GND, 34 VDD, 35 GPIO0, 36 GPIO1, 37 GPIO2, 38 GPIO3, 39 GPIO4, 40 GPIO5, 41 GND, 42 NC, 43 GPIO6, 44 GPIO7, 45 GPIO8, 46 GPIO9, 47 GND

## SensorCard
designator *  (value not drawn)  (no BOM)
footprint SensorCard
text: SENSOR_CARD

## SIMPLE SPRING ANTENNA - 915MHZ
designator E?, comment PN: 4269  (hidden comment: Antenna)
SIMPLE SPRING ANTENNA - 915MHZ; Supplier 1: Digi-Key; Supplier Part Number 1: 1528-4269-ND; Datasheet: https://cdn-shop.adafruit.com/product-files/4269/P4269_915-2.5A-9T.pdf
footprint Spring Antenna
pins: 1 A

## Sonar
designator U?  Supplier Part Number 1: 1568-1421-ND
Ultrasonic distance sensor; PN: SEN-13959; Supplier 1: Digi-Key
pins: 1 VCC, 2 TP, 3 EP, 4 GND

## Switch 1POS
designator SW?  PN: 78H01T  (hidden comment: *)
DipSW 1POS; Supplier 1: Digi-Key; Supplier Part Number 1: GH7198-ND; Datasheet: http://www.grayhill.com/assets/1/7/DIP_Series_78_SPST-4PST.pdf?src-supplier=Digi-Key
footprint Dip SW 1POS - duplicate (Dip SW 1POS)
pins: 1, 2

## Switching Voltage Regulators 3MHZ DC/DC BOOST 2.5A
designator U?  PN: FAN48623UC50GX  (hidden comment: Switching Voltage Regulators 3MHZ DC/DC BOOST 2.5A)
Datasheet: https://www.mouser.ca/datasheet/2/308/FAN48623-D-1805099.pdf; Supplier 1: Mouser; Supplier Part Number 1: 512-FAN48623UC50GX
footprint Switching Voltage Regulators 3MHZ DC/DC BOOST 2.5A
pins: A1 EN, A2 PG, A3 VIN, A4 VIN, B1 VSEL, B2 NC, B3 VOUT, B4 VOUT, C1 ~{BYP}, C2 NC, C3 SW, C4 SW, D1 A GND, D2 GND, D3 GND, D4 GND

## TRM BLCK 1x2
designator TB  (value not drawn)
TM Pitch 5mm 2A Screw; Manufacturer: Würth Elektronik; PN: 691137710002; Supplier 1: Digi-Key; Supplier Part Number 1: 732-10955-ND; Datasheet: https://www.we-online.de/katalog/datasheet/691137710002.pdf
footprint TRM BLCK Pitch 5mm 2Pos
pins: 1, 2

## U.FL SMT Connector
designator *  PN: U.FL-R-SMT-1(40)  (hidden comment: U.FL SMT Connector)
Supplier 1: Digi-Key; Supplier Part Number 1: H125761DKR-ND; Datasheet: https://www.hirose.com/product/document?clcode=CL0311-0300-2-40&productname=HRMP-U.FLJ(40)&series=U.FL&documenttype=Catalog&lang=en&documentid=D31697_en; Datasheet2: https://www.hirose.com/product/download/?distributor=digikey&type=2d&lang=en&num=U.FL-R-SMT-1(40)
footprint U.FL Connector
pins: 1, 2, 3

## WC-31F Outdoor Enclosure with Clear Cover
designator Enclosure
Manufacturer: Polycase.com; Supplier1: Polycase.com; Datasheet: https://www.polycase.com/pub/media/catalog/product/file/282191466529136.pdf; URL: https://www.polycase.com/wc-31f; PN: WC-31F
footprint WC-31F Outdoor Enclosure with Clear Cover (3.23 x 3.15 x 2.17 in / 82.04 x 80.01 x 55.12 mm. / 0.33 lbs)

## XTAL 8.000MHz 30ppm -20 +70C 18pF
designator *, comment PN: 9C-8.000MAAJ-T  Supplier 1: Mouser  Supplier Part Number 1: 717-9C-8.000MAAJ-T  (hidden comment: Crystals 8.000MHz 30ppm -20 +70C 18pF)
Datasheet: https://www.mouser.ca/datasheet/2/417/9c-13007.pdf
footprint XTAL 8.000MHz 30ppm -20 +70C 18pF
pins: 1, 2